# Altium footprint library SOD323.PcbLib: 1 footprints
Each footprint in its own frame and in the unit in brackets; x right, y up, seen from the top. Pads: shape width x height; smd on the part's side, far side on the other; paste and mask are expansions set on the pad; w line width, h text height; cw(c..) or ccw(c..) is an arc to the next point about the centre after c.
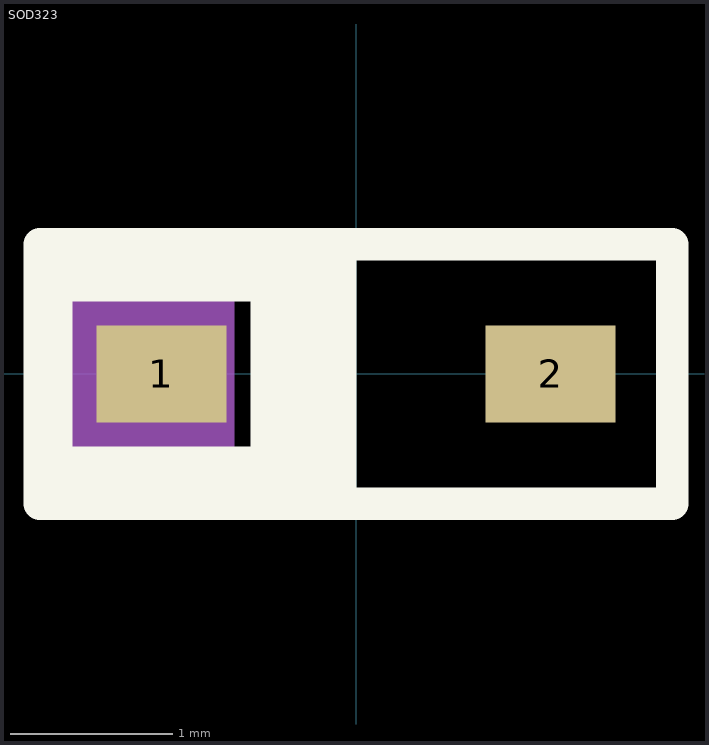
[diagram p0: the footprint, top view; thin cyan lines are the x and y axes]

## SOD323 [mm]
pads (2):
  rect 0.8x0.6 smd: 1(-1.2,0) 2(1.2,0)
Top Overlay:
  region: -1.975,-0.8 -1.975,0.8 -1.75,0.8 -1.75,-0.8
  region: -0.65,-0.8 -0.65,0.8 0,0.8 0,-0.8
  region: -1.75,0.8 -0.65,0.8 -0.65,0.45 -1.75,0.45
  region: -1.75,-0.45 -0.65,-0.45 -0.65,-0.8 -1.75,-0.8
  lines w0.2: -1.95,-0.8 -1.95,0.8 1.95,0.8 1.95,-0.8 -1.95,-0.8
Top Assembly:
  rectangle: -1.925,-0.775 -0.75,0.775
  lines w0.1: -1.925,-0.775 -1.925,0.775 1.925,0.775 1.925,-0.775 -1.925,-0.775
  text "'.Designator'" at -0.35,-0.35 h0.7
3D body "SOD323.STEP": height 1.1, standoff 0, extent -1.3,-0.675 1.3,0.675